# Altium footprint library Connector_FFC-FPC.PcbLib: 372 footprints (part 12 of 24)
Each footprint in its own frame and in the unit in brackets; x right, y up, seen from the top. Pads: shape width x height; smd on the part's side, far side on the other; paste and mask are expansions set on the pad; w line width, h text height; cw(c..) or ccw(c..) is an arc to the next point about the centre after c.
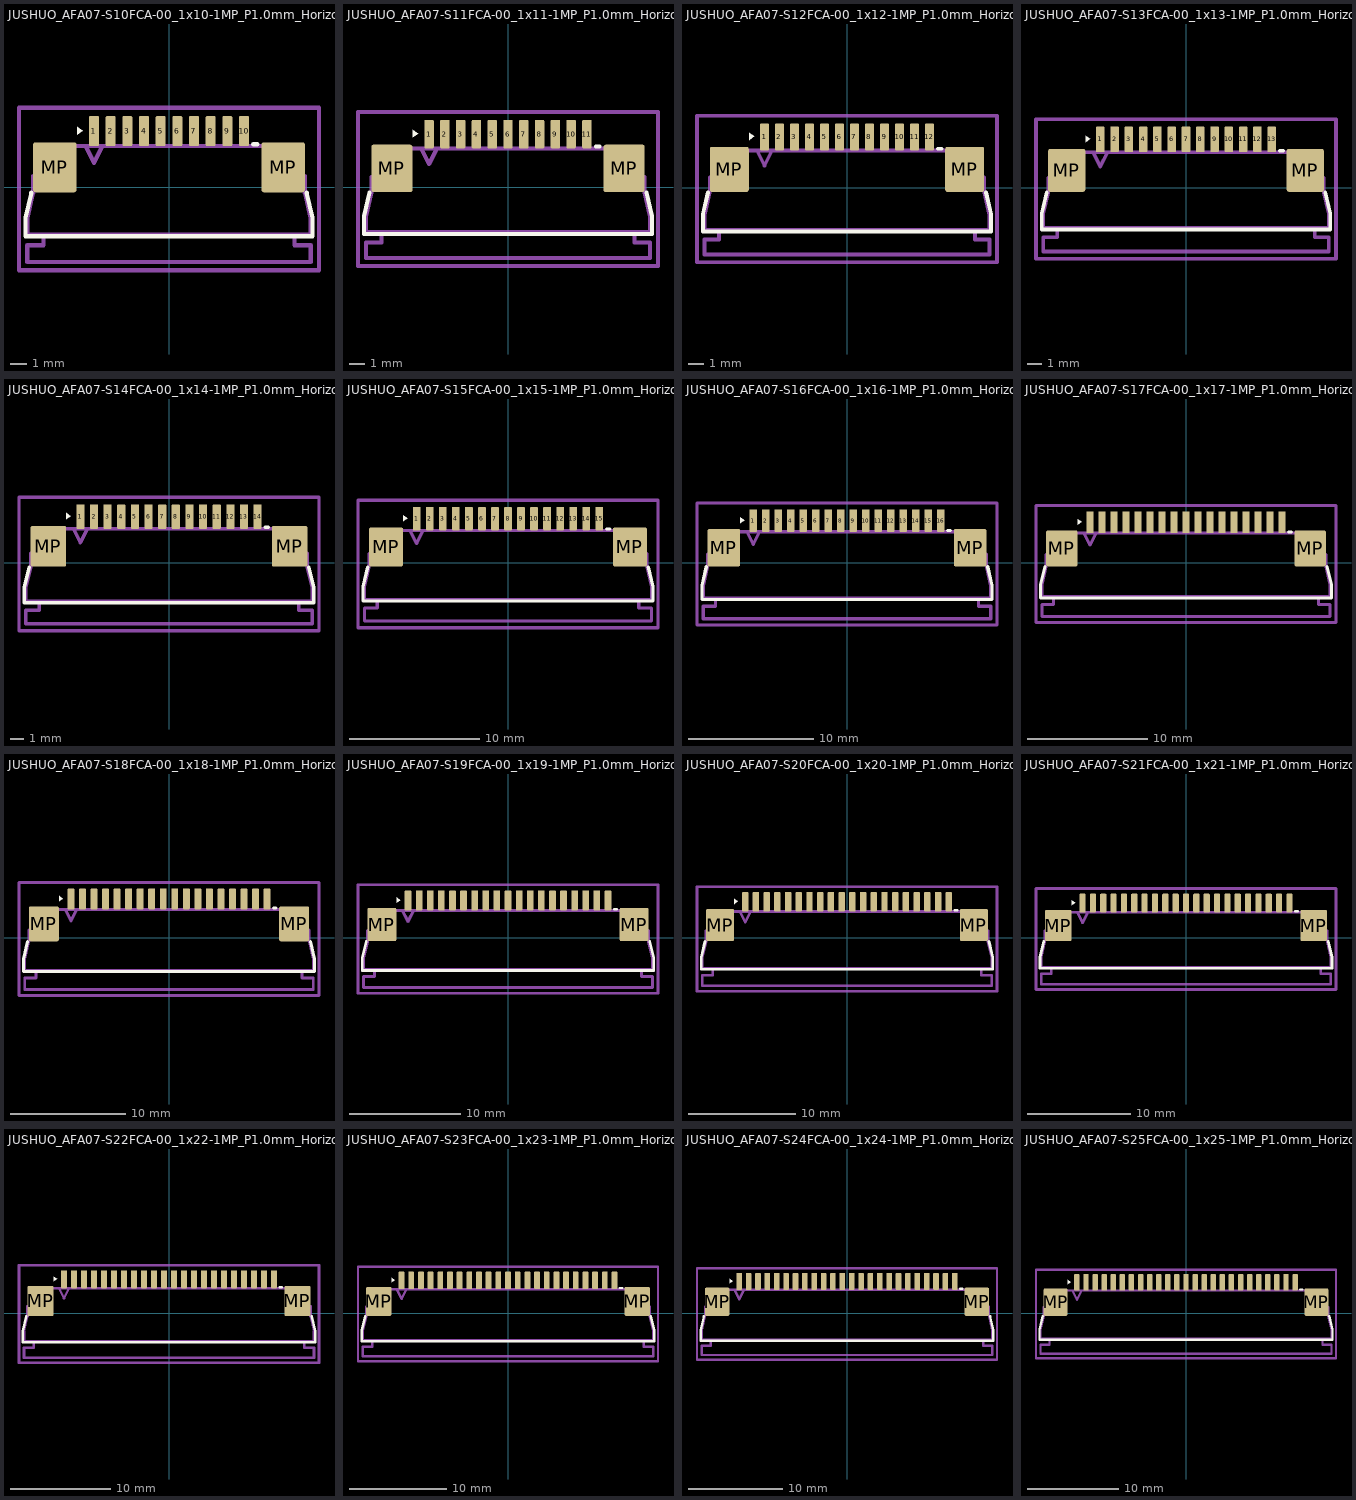
[diagram p11: the footprints below, top view; thin cyan lines are the x and y axes]

## JUSHUO_AFA07-S10FCA-00_1x10-1MP_P1.0mm_Horizontal [mm]
pads (12):
  rrect25% 0.6x1.8 smd: 1(-4.5,3.375) 2(-3.5,3.375) 3(-2.5,3.375) 4(-1.5,3.375) 5(-0.5,3.375) 6(0.5,3.375) 7(1.5,3.375) 8(2.5,3.375) 9(3.5,3.375) 10(4.5,3.375)
  rrect10% 2.6x3 smd: MP(-6.85,1.205) MP(6.85,1.205)
F.SilkS:
  region: -5.19,3.405 -5.52,3.165 -5.52,3.645
  lines w0.254: -8.26,-0.325 -8.61,-1.825 -8.61,-2.935 8.61,-2.935 8.61,-1.825 8.26,-0.325 ; 5.06,2.585 5.29,2.585
Top Assembly:
  lines w0.254: -7.525,-2.825 -7.525,-3.475 -8.5,-3.475 -8.5,-4.475 8.5,-4.475 8.5,-3.475 7.525,-3.475 7.525,-2.825 ; -5,2.475 -4.5,1.475 -4,2.475 ; -8.5,-2.825 8.5,-2.825 8.5,-1.825 8.15,-0.325 8.15,0.675 7.525,0.675 7.525,2.475 -7.525,2.475 -7.525,0.675 -8.15,0.675 -8.15,-0.325 -8.5,-1.825 -8.5,-2.825
  text "'.Designator'" at -4.047,-1.02 h1
Top Courtyard:
  lines w0.254: -9,-4.98 9,-4.98 9,4.78 -9,4.78 -9,-4.98
Top Designator:
  text ".Designator" at -7.618,-0.608 h1.52

## JUSHUO_AFA07-S11FCA-00_1x11-1MP_P1.0mm_Horizontal [mm]
pads (13):
  rrect25% 0.6x1.8 smd: 1(-5,3.375) 2(-4,3.375) 3(-3,3.375) 4(-2,3.375) 5(-1,3.375) 6(0,3.375) 7(1,3.375) 8(2,3.375) 9(3,3.375) 10(4,3.375) 11(5,3.375)
  rrect10% 2.6x3 smd: MP(-7.35,1.205) MP(7.35,1.205)
F.SilkS:
  region: -5.69,3.405 -6.02,3.165 -6.02,3.645
  lines w0.254: -8.76,-0.325 -9.11,-1.825 -9.11,-2.935 9.11,-2.935 9.11,-1.825 8.76,-0.325 ; 5.56,2.585 5.79,2.585
Top Assembly:
  lines w0.254: -8.025,-2.825 -8.025,-3.475 -9,-3.475 -9,-4.475 9,-4.475 9,-3.475 8.025,-3.475 8.025,-2.825 ; -5.5,2.475 -5,1.475 -4.5,2.475 ; -9,-2.825 9,-2.825 9,-1.825 8.65,-0.325 8.65,0.675 8.025,0.675 8.025,2.475 -8.025,2.475 -8.025,0.675 -8.65,0.675 -8.65,-0.325 -9,-1.825 -9,-2.825
  text "'.Designator'" at -4.047,-1.02 h1
Top Courtyard:
  lines w0.254: -9.5,-4.98 9.5,-4.98 9.5,4.78 -9.5,4.78 -9.5,-4.98
Top Designator:
  text ".Designator" at -7.618,-0.608 h1.52

## JUSHUO_AFA07-S12FCA-00_1x12-1MP_P1.0mm_Horizontal [mm]
pads (14):
  rrect25% 0.6x1.8 smd: 1(-5.5,3.375) 2(-4.5,3.375) 3(-3.5,3.375) 4(-2.5,3.375) 5(-1.5,3.375) 6(-0.5,3.375) 7(0.5,3.375) 8(1.5,3.375) 9(2.5,3.375) 10(3.5,3.375) 11(4.5,3.375) 12(5.5,3.375)
  rrect10% 2.6x3 smd: MP(-7.85,1.205) MP(7.85,1.205)
F.SilkS:
  region: -6.19,3.405 -6.52,3.165 -6.52,3.645
  lines w0.254: -9.26,-0.325 -9.61,-1.825 -9.61,-2.935 9.61,-2.935 9.61,-1.825 9.26,-0.325 ; 6.06,2.585 6.29,2.585
Top Assembly:
  lines w0.254: -8.525,-2.825 -8.525,-3.475 -9.5,-3.475 -9.5,-4.475 9.5,-4.475 9.5,-3.475 8.525,-3.475 8.525,-2.825 ; -6,2.475 -5.5,1.475 -5,2.475 ; -9.5,-2.825 9.5,-2.825 9.5,-1.825 9.15,-0.325 9.15,0.675 8.525,0.675 8.525,2.475 -8.525,2.475 -8.525,0.675 -9.15,0.675 -9.15,-0.325 -9.5,-1.825 -9.5,-2.825
  text "'.Designator'" at -4.047,-1.02 h1
Top Courtyard:
  lines w0.254: -10,-4.98 10,-4.98 10,4.78 -10,4.78 -10,-4.98
Top Designator:
  text ".Designator" at -7.618,-0.608 h1.52

## JUSHUO_AFA07-S13FCA-00_1x13-1MP_P1.0mm_Horizontal [mm]
pads (15):
  rrect25% 0.6x1.8 smd: 1(-6,3.375) 2(-5,3.375) 3(-4,3.375) 4(-3,3.375) 5(-2,3.375) 6(-1,3.375) 7(0,3.375) 8(1,3.375) 9(2,3.375) 10(3,3.375) 11(4,3.375) 12(5,3.375) 13(6,3.375)
  rrect10% 2.6x3 smd: MP(-8.35,1.205) MP(8.35,1.205)
F.SilkS:
  region: -6.69,3.405 -7.02,3.165 -7.02,3.645
  lines w0.254: -9.76,-0.325 -10.11,-1.825 -10.11,-2.935 10.11,-2.935 10.11,-1.825 9.76,-0.325 ; 6.56,2.585 6.79,2.585
Top Assembly:
  lines w0.254: -9.025,-2.825 -9.025,-3.475 -10,-3.475 -10,-4.475 10,-4.475 10,-3.475 9.025,-3.475 9.025,-2.825 ; -6.5,2.475 -6,1.475 -5.5,2.475 ; -10,-2.825 10,-2.825 10,-1.825 9.65,-0.325 9.65,0.675 9.025,0.675 9.025,2.475 -9.025,2.475 -9.025,0.675 -9.65,0.675 -9.65,-0.325 -10,-1.825 -10,-2.825
  text "'.Designator'" at -4.047,-1.02 h1
Top Courtyard:
  lines w0.254: -10.5,-4.98 10.5,-4.98 10.5,4.78 -10.5,4.78 -10.5,-4.98
Top Designator:
  text ".Designator" at -7.618,-0.608 h1.52

## JUSHUO_AFA07-S14FCA-00_1x14-1MP_P1.0mm_Horizontal [mm]
pads (16):
  rrect25% 0.6x1.8 smd: 1(-6.5,3.375) 2(-5.5,3.375) 3(-4.5,3.375) 4(-3.5,3.375) 5(-2.5,3.375) 6(-1.5,3.375) 7(-0.5,3.375) 8(0.5,3.375) 9(1.5,3.375) 10(2.5,3.375) 11(3.5,3.375) 12(4.5,3.375) 13(5.5,3.375) 14(6.5,3.375)
  rrect10% 2.6x3 smd: MP(-8.85,1.205) MP(8.85,1.205)
F.SilkS:
  region: -7.19,3.405 -7.52,3.165 -7.52,3.645
  lines w0.254: -10.26,-0.325 -10.61,-1.825 -10.61,-2.935 10.61,-2.935 10.61,-1.825 10.26,-0.325 ; 7.06,2.585 7.29,2.585
Top Assembly:
  lines w0.254: -9.525,-2.825 -9.525,-3.475 -10.5,-3.475 -10.5,-4.475 10.5,-4.475 10.5,-3.475 9.525,-3.475 9.525,-2.825 ; -7,2.475 -6.5,1.475 -6,2.475 ; -10.5,-2.825 10.5,-2.825 10.5,-1.825 10.15,-0.325 10.15,0.675 9.525,0.675 9.525,2.475 -9.525,2.475 -9.525,0.675 -10.15,0.675 -10.15,-0.325 -10.5,-1.825 -10.5,-2.825
  text "'.Designator'" at -4.047,-1.02 h1
Top Courtyard:
  lines w0.254: -11,-4.98 11,-4.98 11,4.78 -11,4.78 -11,-4.98
Top Designator:
  text ".Designator" at -7.618,-0.608 h1.52

## JUSHUO_AFA07-S15FCA-00_1x15-1MP_P1.0mm_Horizontal [mm]
pads (17):
  rrect25% 0.6x1.8 smd: 1(-7,3.375) 2(-6,3.375) 3(-5,3.375) 4(-4,3.375) 5(-3,3.375) 6(-2,3.375) 7(-1,3.375) 8(0,3.375) 9(1,3.375) 10(2,3.375) 11(3,3.375) 12(4,3.375) 13(5,3.375) 14(6,3.375) 15(7,3.375)
  rrect10% 2.6x3 smd: MP(-9.35,1.205) MP(9.35,1.205)
F.SilkS:
  region: -7.69,3.405 -8.02,3.165 -8.02,3.645
  lines w0.254: -10.76,-0.325 -11.11,-1.825 -11.11,-2.935 11.11,-2.935 11.11,-1.825 10.76,-0.325 ; 7.56,2.585 7.79,2.585
Top Assembly:
  lines w0.254: -10.025,-2.825 -10.025,-3.475 -11,-3.475 -11,-4.475 11,-4.475 11,-3.475 10.025,-3.475 10.025,-2.825 ; -7.5,2.475 -7,1.475 -6.5,2.475 ; -11,-2.825 11,-2.825 11,-1.825 10.65,-0.325 10.65,0.675 10.025,0.675 10.025,2.475 -10.025,2.475 -10.025,0.675 -10.65,0.675 -10.65,-0.325 -11,-1.825 -11,-2.825
  text "'.Designator'" at -4.047,-1.02 h1
Top Courtyard:
  lines w0.254: -11.5,-4.98 11.5,-4.98 11.5,4.78 -11.5,4.78 -11.5,-4.98
Top Designator:
  text ".Designator" at -7.618,-0.608 h1.52

## JUSHUO_AFA07-S16FCA-00_1x16-1MP_P1.0mm_Horizontal [mm]
pads (18):
  rrect25% 0.6x1.8 smd: 1(-7.5,3.375) 2(-6.5,3.375) 3(-5.5,3.375) 4(-4.5,3.375) 5(-3.5,3.375) 6(-2.5,3.375) 7(-1.5,3.375) 8(-0.5,3.375) 9(0.5,3.375) 10(1.5,3.375) 11(2.5,3.375) 12(3.5,3.375) 13(4.5,3.375) 14(5.5,3.375) 15(6.5,3.375) 16(7.5,3.375)
  rrect10% 2.6x3 smd: MP(-9.85,1.205) MP(9.85,1.205)
F.SilkS:
  region: -8.19,3.405 -8.52,3.165 -8.52,3.645
  lines w0.254: -11.26,-0.325 -11.61,-1.825 -11.61,-2.935 11.61,-2.935 11.61,-1.825 11.26,-0.325 ; 8.06,2.585 8.29,2.585
Top Assembly:
  lines w0.254: -10.525,-2.825 -10.525,-3.475 -11.5,-3.475 -11.5,-4.475 11.5,-4.475 11.5,-3.475 10.525,-3.475 10.525,-2.825 ; -8,2.475 -7.5,1.475 -7,2.475 ; -11.5,-2.825 11.5,-2.825 11.5,-1.825 11.15,-0.325 11.15,0.675 10.525,0.675 10.525,2.475 -10.525,2.475 -10.525,0.675 -11.15,0.675 -11.15,-0.325 -11.5,-1.825 -11.5,-2.825
  text "'.Designator'" at -4.047,-1.02 h1
Top Courtyard:
  lines w0.254: -12,-4.98 12,-4.98 12,4.78 -12,4.78 -12,-4.98
Top Designator:
  text ".Designator" at -7.618,-0.608 h1.52

## JUSHUO_AFA07-S17FCA-00_1x17-1MP_P1.0mm_Horizontal [mm]
pads (19):
  rrect25% 0.6x1.8 smd: 1(-8,3.375) 2(-7,3.375) 3(-6,3.375) 4(-5,3.375) 5(-4,3.375) 6(-3,3.375) 7(-2,3.375) 8(-1,3.375) 9(0,3.375) 10(1,3.375) 11(2,3.375) 12(3,3.375) 13(4,3.375) 14(5,3.375) 15(6,3.375) 16(7,3.375) 17(8,3.375)
  rrect10% 2.6x3 smd: MP(-10.35,1.205) MP(10.35,1.205)
F.SilkS:
  region: -8.69,3.405 -9.02,3.165 -9.02,3.645
  lines w0.254: -11.76,-0.325 -12.11,-1.825 -12.11,-2.935 12.11,-2.935 12.11,-1.825 11.76,-0.325 ; 8.56,2.585 8.79,2.585
Top Assembly:
  lines w0.254: -11.025,-2.825 -11.025,-3.475 -12,-3.475 -12,-4.475 12,-4.475 12,-3.475 11.025,-3.475 11.025,-2.825 ; -8.5,2.475 -8,1.475 -7.5,2.475 ; -12,-2.825 12,-2.825 12,-1.825 11.65,-0.325 11.65,0.675 11.025,0.675 11.025,2.475 -11.025,2.475 -11.025,0.675 -11.65,0.675 -11.65,-0.325 -12,-1.825 -12,-2.825
  text "'.Designator'" at -4.047,-1.02 h1
Top Courtyard:
  lines w0.254: -12.5,-4.98 12.5,-4.98 12.5,4.78 -12.5,4.78 -12.5,-4.98
Top Designator:
  text ".Designator" at -7.618,-0.608 h1.52

## JUSHUO_AFA07-S18FCA-00_1x18-1MP_P1.0mm_Horizontal [mm]
pads (20):
  rrect25% 0.6x1.8 smd: 1(-8.5,3.375) 2(-7.5,3.375) 3(-6.5,3.375) 4(-5.5,3.375) 5(-4.5,3.375) 6(-3.5,3.375) 7(-2.5,3.375) 8(-1.5,3.375) 9(-0.5,3.375) 10(0.5,3.375) 11(1.5,3.375) 12(2.5,3.375) 13(3.5,3.375) 14(4.5,3.375) 15(5.5,3.375) 16(6.5,3.375) 17(7.5,3.375) 18(8.5,3.375)
  rrect10% 2.6x3 smd: MP(-10.85,1.205) MP(10.85,1.205)
F.SilkS:
  region: -9.19,3.405 -9.52,3.165 -9.52,3.645
  lines w0.254: -12.26,-0.325 -12.61,-1.825 -12.61,-2.935 12.61,-2.935 12.61,-1.825 12.26,-0.325 ; 9.06,2.585 9.29,2.585
Top Assembly:
  lines w0.254: -11.525,-2.825 -11.525,-3.475 -12.5,-3.475 -12.5,-4.475 12.5,-4.475 12.5,-3.475 11.525,-3.475 11.525,-2.825 ; -9,2.475 -8.5,1.475 -8,2.475 ; -12.5,-2.825 12.5,-2.825 12.5,-1.825 12.15,-0.325 12.15,0.675 11.525,0.675 11.525,2.475 -11.525,2.475 -11.525,0.675 -12.15,0.675 -12.15,-0.325 -12.5,-1.825 -12.5,-2.825
  text "'.Designator'" at -4.047,-1.02 h1
Top Courtyard:
  lines w0.254: -13,-4.98 13,-4.98 13,4.78 -13,4.78 -13,-4.98
Top Designator:
  text ".Designator" at -7.618,-0.608 h1.52

## JUSHUO_AFA07-S19FCA-00_1x19-1MP_P1.0mm_Horizontal [mm]
pads (21):
  rrect25% 0.6x1.8 smd: 1(-9,3.375) 2(-8,3.375) 3(-7,3.375) 4(-6,3.375) 5(-5,3.375) 6(-4,3.375) 7(-3,3.375) 8(-2,3.375) 9(-1,3.375) 10(0,3.375) 11(1,3.375) 12(2,3.375) 13(3,3.375) 14(4,3.375) 15(5,3.375) 16(6,3.375) 17(7,3.375) 18(8,3.375) 19(9,3.375)
  rrect10% 2.6x3 smd: MP(-11.35,1.205) MP(11.35,1.205)
F.SilkS:
  region: -9.69,3.405 -10.02,3.165 -10.02,3.645
  lines w0.254: -12.76,-0.325 -13.11,-1.825 -13.11,-2.935 13.11,-2.935 13.11,-1.825 12.76,-0.325 ; 9.56,2.585 9.79,2.585
Top Assembly:
  lines w0.254: -12.025,-2.825 -12.025,-3.475 -13,-3.475 -13,-4.475 13,-4.475 13,-3.475 12.025,-3.475 12.025,-2.825 ; -9.5,2.475 -9,1.475 -8.5,2.475 ; -13,-2.825 13,-2.825 13,-1.825 12.65,-0.325 12.65,0.675 12.025,0.675 12.025,2.475 -12.025,2.475 -12.025,0.675 -12.65,0.675 -12.65,-0.325 -13,-1.825 -13,-2.825
  text "'.Designator'" at -4.047,-1.02 h1
Top Courtyard:
  lines w0.254: -13.5,-4.98 13.5,-4.98 13.5,4.78 -13.5,4.78 -13.5,-4.98
Top Designator:
  text ".Designator" at -7.618,-0.608 h1.52

## JUSHUO_AFA07-S20FCA-00_1x20-1MP_P1.0mm_Horizontal [mm]
pads (22):
  rrect25% 0.6x1.8 smd: 1(-9.5,3.375) 2(-8.5,3.375) 3(-7.5,3.375) 4(-6.5,3.375) 5(-5.5,3.375) 6(-4.5,3.375) 7(-3.5,3.375) 8(-2.5,3.375) 9(-1.5,3.375) 10(-0.5,3.375) 11(0.5,3.375) 12(1.5,3.375) 13(2.5,3.375) 14(3.5,3.375) 15(4.5,3.375) 16(5.5,3.375) 17(6.5,3.375) 18(7.5,3.375) 19(8.5,3.375) 20(9.5,3.375)
  rrect10% 2.6x3 smd: MP(-11.85,1.205) MP(11.85,1.205)
F.SilkS:
  region: -10.19,3.405 -10.52,3.165 -10.52,3.645
  lines w0.254: -13.26,-0.325 -13.61,-1.825 -13.61,-2.935 13.61,-2.935 13.61,-1.825 13.26,-0.325 ; 10.06,2.585 10.29,2.585
Top Assembly:
  lines w0.254: -12.525,-2.825 -12.525,-3.475 -13.5,-3.475 -13.5,-4.475 13.5,-4.475 13.5,-3.475 12.525,-3.475 12.525,-2.825 ; -10,2.475 -9.5,1.475 -9,2.475 ; -13.5,-2.825 13.5,-2.825 13.5,-1.825 13.15,-0.325 13.15,0.675 12.525,0.675 12.525,2.475 -12.525,2.475 -12.525,0.675 -13.15,0.675 -13.15,-0.325 -13.5,-1.825 -13.5,-2.825
  text "'.Designator'" at -4.047,-1.02 h1
Top Courtyard:
  lines w0.254: -14,-4.98 14,-4.98 14,4.78 -14,4.78 -14,-4.98
Top Designator:
  text ".Designator" at -7.618,-0.608 h1.52

## JUSHUO_AFA07-S21FCA-00_1x21-1MP_P1.0mm_Horizontal [mm]
pads (23):
  rrect25% 0.6x1.8 smd: 1(-10,3.375) 2(-9,3.375) 3(-8,3.375) 4(-7,3.375) 5(-6,3.375) 6(-5,3.375) 7(-4,3.375) 8(-3,3.375) 9(-2,3.375) 10(-1,3.375) 11(0,3.375) 12(1,3.375) 13(2,3.375) 14(3,3.375) 15(4,3.375) 16(5,3.375) 17(6,3.375) 18(7,3.375) 19(8,3.375) 20(9,3.375) 21(10,3.375)
  rrect10% 2.6x3 smd: MP(-12.35,1.205) MP(12.35,1.205)
F.SilkS:
  region: -10.69,3.405 -11.02,3.165 -11.02,3.645
  lines w0.254: -13.76,-0.325 -14.11,-1.825 -14.11,-2.935 14.11,-2.935 14.11,-1.825 13.76,-0.325 ; 10.56,2.585 10.79,2.585
Top Assembly:
  lines w0.254: -13.025,-2.825 -13.025,-3.475 -14,-3.475 -14,-4.475 14,-4.475 14,-3.475 13.025,-3.475 13.025,-2.825 ; -10.5,2.475 -10,1.475 -9.5,2.475 ; -14,-2.825 14,-2.825 14,-1.825 13.65,-0.325 13.65,0.675 13.025,0.675 13.025,2.475 -13.025,2.475 -13.025,0.675 -13.65,0.675 -13.65,-0.325 -14,-1.825 -14,-2.825
  text "'.Designator'" at -4.047,-1.02 h1
Top Courtyard:
  lines w0.254: -14.5,-4.98 14.5,-4.98 14.5,4.78 -14.5,4.78 -14.5,-4.98
Top Designator:
  text ".Designator" at -7.618,-0.608 h1.52

## JUSHUO_AFA07-S22FCA-00_1x22-1MP_P1.0mm_Horizontal [mm]
pads (24):
  rrect25% 0.6x1.8 smd: 1(-10.5,3.375) 2(-9.5,3.375) 3(-8.5,3.375) 4(-7.5,3.375) 5(-6.5,3.375) 6(-5.5,3.375) 7(-4.5,3.375) 8(-3.5,3.375) 9(-2.5,3.375) 10(-1.5,3.375) 11(-0.5,3.375) 12(0.5,3.375) 13(1.5,3.375) 14(2.5,3.375) 15(3.5,3.375) 16(4.5,3.375) 17(5.5,3.375) 18(6.5,3.375) 19(7.5,3.375) 20(8.5,3.375) 21(9.5,3.375) 22(10.5,3.375)
  rrect10% 2.6x3 smd: MP(-12.85,1.205) MP(12.85,1.205)
F.SilkS:
  region: -11.19,3.405 -11.52,3.165 -11.52,3.645
  lines w0.254: -14.26,-0.325 -14.61,-1.825 -14.61,-2.935 14.61,-2.935 14.61,-1.825 14.26,-0.325 ; 11.06,2.585 11.29,2.585
Top Assembly:
  lines w0.254: -13.525,-2.825 -13.525,-3.475 -14.5,-3.475 -14.5,-4.475 14.5,-4.475 14.5,-3.475 13.525,-3.475 13.525,-2.825 ; -11,2.475 -10.5,1.475 -10,2.475 ; -14.5,-2.825 14.5,-2.825 14.5,-1.825 14.15,-0.325 14.15,0.675 13.525,0.675 13.525,2.475 -13.525,2.475 -13.525,0.675 -14.15,0.675 -14.15,-0.325 -14.5,-1.825 -14.5,-2.825
  text "'.Designator'" at -4.047,-1.02 h1
Top Courtyard:
  lines w0.254: -15,-4.98 15,-4.98 15,4.78 -15,4.78 -15,-4.98
Top Designator:
  text ".Designator" at -7.618,-0.608 h1.52

## JUSHUO_AFA07-S23FCA-00_1x23-1MP_P1.0mm_Horizontal [mm]
pads (25):
  rrect25% 0.6x1.8 smd: 1(-11,3.375) 2(-10,3.375) 3(-9,3.375) 4(-8,3.375) 5(-7,3.375) 6(-6,3.375) 7(-5,3.375) 8(-4,3.375) 9(-3,3.375) 10(-2,3.375) 11(-1,3.375) 12(0,3.375) 13(1,3.375) 14(2,3.375) 15(3,3.375) 16(4,3.375) 17(5,3.375) 18(6,3.375) 19(7,3.375) 20(8,3.375) 21(9,3.375) 22(10,3.375) 23(11,3.375)
  rrect10% 2.6x3 smd: MP(-13.35,1.205) MP(13.35,1.205)
F.SilkS:
  region: -11.69,3.405 -12.02,3.165 -12.02,3.645
  lines w0.254: -14.76,-0.325 -15.11,-1.825 -15.11,-2.935 15.11,-2.935 15.11,-1.825 14.76,-0.325 ; 11.56,2.585 11.79,2.585
Top Assembly:
  lines w0.254: -14.025,-2.825 -14.025,-3.475 -15,-3.475 -15,-4.475 15,-4.475 15,-3.475 14.025,-3.475 14.025,-2.825 ; -11.5,2.475 -11,1.475 -10.5,2.475 ; -15,-2.825 15,-2.825 15,-1.825 14.65,-0.325 14.65,0.675 14.025,0.675 14.025,2.475 -14.025,2.475 -14.025,0.675 -14.65,0.675 -14.65,-0.325 -15,-1.825 -15,-2.825
  text "'.Designator'" at -4.047,-1.02 h1
Top Courtyard:
  lines w0.254: -15.5,-4.98 15.5,-4.98 15.5,4.78 -15.5,4.78 -15.5,-4.98
Top Designator:
  text ".Designator" at -7.618,-0.608 h1.52

## JUSHUO_AFA07-S24FCA-00_1x24-1MP_P1.0mm_Horizontal [mm]
pads (26):
  rrect25% 0.6x1.8 smd: 1(-11.5,3.375) 2(-10.5,3.375) 3(-9.5,3.375) 4(-8.5,3.375) 5(-7.5,3.375) 6(-6.5,3.375) 7(-5.5,3.375) 8(-4.5,3.375) 9(-3.5,3.375) 10(-2.5,3.375) 11(-1.5,3.375) 12(-0.5,3.375) 13(0.5,3.375) 14(1.5,3.375) 15(2.5,3.375) 16(3.5,3.375) 17(4.5,3.375) 18(5.5,3.375) 19(6.5,3.375) 20(7.5,3.375) 21(8.5,3.375) 22(9.5,3.375) 23(10.5,3.375) 24(11.5,3.375)
  rrect10% 2.6x3 smd: MP(-13.85,1.205) MP(13.85,1.205)
F.SilkS:
  region: -12.19,3.405 -12.52,3.165 -12.52,3.645
  lines w0.254: -15.26,-0.325 -15.61,-1.825 -15.61,-2.935 15.61,-2.935 15.61,-1.825 15.26,-0.325 ; 12.06,2.585 12.29,2.585
Top Assembly:
  lines w0.254: -14.525,-2.825 -14.525,-3.475 -15.5,-3.475 -15.5,-4.475 15.5,-4.475 15.5,-3.475 14.525,-3.475 14.525,-2.825 ; -12,2.475 -11.5,1.475 -11,2.475 ; -15.5,-2.825 15.5,-2.825 15.5,-1.825 15.15,-0.325 15.15,0.675 14.525,0.675 14.525,2.475 -14.525,2.475 -14.525,0.675 -15.15,0.675 -15.15,-0.325 -15.5,-1.825 -15.5,-2.825
  text "'.Designator'" at -4.047,-1.02 h1
Top Courtyard:
  lines w0.254: -16,-4.98 16,-4.98 16,4.78 -16,4.78 -16,-4.98
Top Designator:
  text ".Designator" at -7.618,-0.608 h1.52

## JUSHUO_AFA07-S25FCA-00_1x25-1MP_P1.0mm_Horizontal [mm]
pads (27):
  rrect25% 0.6x1.8 smd: 1(-12,3.375) 2(-11,3.375) 3(-10,3.375) 4(-9,3.375) 5(-8,3.375) 6(-7,3.375) 7(-6,3.375) 8(-5,3.375) 9(-4,3.375) 10(-3,3.375) 11(-2,3.375) 12(-1,3.375) 13(0,3.375) 14(1,3.375) 15(2,3.375) 16(3,3.375) 17(4,3.375) 18(5,3.375) 19(6,3.375) 20(7,3.375) 21(8,3.375) 22(9,3.375) 23(10,3.375) 24(11,3.375) 25(12,3.375)
  rrect10% 2.6x3 smd: MP(-14.35,1.205) MP(14.35,1.205)
F.SilkS:
  region: -12.69,3.405 -13.02,3.165 -13.02,3.645
  lines w0.254: -15.76,-0.325 -16.11,-1.825 -16.11,-2.935 16.11,-2.935 16.11,-1.825 15.76,-0.325 ; 12.56,2.585 12.79,2.585
Top Assembly:
  lines w0.254: -15.025,-2.825 -15.025,-3.475 -16,-3.475 -16,-4.475 16,-4.475 16,-3.475 15.025,-3.475 15.025,-2.825 ; -12.5,2.475 -12,1.475 -11.5,2.475 ; -16,-2.825 16,-2.825 16,-1.825 15.65,-0.325 15.65,0.675 15.025,0.675 15.025,2.475 -15.025,2.475 -15.025,0.675 -15.65,0.675 -15.65,-0.325 -16,-1.825 -16,-2.825
  text "'.Designator'" at -4.047,-1.02 h1
Top Courtyard:
  lines w0.254: -16.5,-4.98 16.5,-4.98 16.5,4.78 -16.5,4.78 -16.5,-4.98
Top Designator:
  text ".Designator" at -7.618,-0.608 h1.52